# Altium integrated library manipulator-camera-module.IntLib: 6 symbols
Pins are listed as number, name and electrical type; pins without a type are passive.

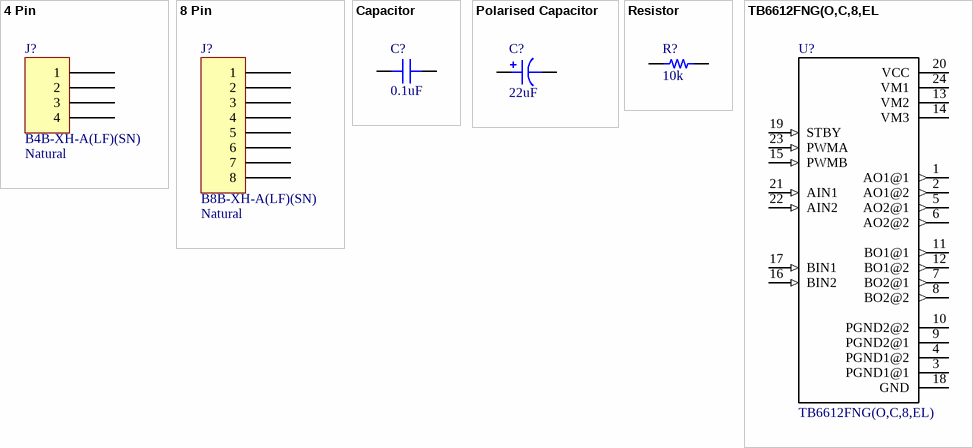
[diagram p0: symbols 4 Pin to TB6612FNG(O,C,8,EL]

## 4 Pin
designator J?, comment B4B-XH-A(LF)(SN)  Colour: Natural
CONN HEADER XH TOP 4POS 2.5MM; Manufacturer: JST Sales America Inc.; Pitch: 0.098" (2.50mm); Number Of Positions: 4; Part Number: B4B-XH-A(LF)(SN); PartId: 16451; Supplier 1: Digi-Key; Supplier Part Number 1: 455-2249-ND; ComponentLink1Description: Datasheet; ComponentLink1URL: http://www.jst-mfg.com/product/pdf/eng/eXH.pdf; ComponentLink2Description: Digi-Key Listing; ComponentLink2URL: http://www.digikey.com/product-detail/en/jst-sales-america-inc/B4B-XH-A(LF)(SN)/455-2249-ND/1651047; Price: 0,21; Type: Header, Shrouded; Contact Finish: Tin; Fastening Type: Detent Lock; Number Of Rows: 1; Series: XH
footprint JST XH B4B-XH-A
pins: 1, 2, 3, 4

## 8 Pin
designator J?, comment B8B-XH-A(LF)(SN)  Colour: Natural
CONN HEADER XH TOP 8POS 2.5MM; Manufacturer: JST Sales America Inc.; Pitch: 0.098" (2.50mm); Number Of Positions: 8; Part Number: B8B-XH-A(LF)(SN); PartId: 16455; Supplier 1: Digi-Key; Supplier Part Number 1: 455-2251-ND; ComponentLink1Description: Datasheet; ComponentLink1URL: http://www.jst-mfg.com/product/pdf/eng/eXH.pdf; ComponentLink2Description: Digi-Key Listing; ComponentLink2URL: http://www.digikey.com/product-detail/en/jst-sales-america-inc/B8B-XH-A(LF)(SN)/455-2251-ND/1651049; Price: 0,36; Type: Header, Shrouded; Contact Finish: Tin; Fastening Type: Detent Lock; Number Of Rows: 1; Series: XH
footprint JST XH B8B-XH-A
pins: 1, 2, 3, 4, 5, 6, 7, 8

## Capacitor
designator C?, comment 0.1uF
CAP CER 0.1UF 50V X7R 0805; Part Number: C2012X7R1H104K085AA; Manufacturer: TDK Corporation; TemperatureRange: -55C ~ 125C; Tolerance: 10%; Value: 0.1uF; PartId: 4390; Supplier 1: Digi-Key; Supplier Part Number 1: 445-7534-2-ND; ComponentLink1Description: Datasheet; ComponentLink1URL: https://product.tdk.com/info/en/catalog/datasheets/mlcc_commercial_general_en.pdf; ComponentLink2Description: Digi-Key listing; ComponentLink2URL: http://digikey.com/product-detail/en/C2012X7R1H104K085AA/445-7534-2-ND/2732969; TemperatureCoefficient: X7R; Voltage: 50V; Price: 0,0182; Type: -; Device Package: 0805 (2012 Metric)
footprint RES 0805/2012
pins: 1, 2

## Polarised Capacitor
designator C?, comment 22uF
CAP ALUM 22UF 20% 25V SMD; Part Number: EEE-1EA220AP; Manufacturer: Panasonic Electronic Components; TemperatureRange: -40C ~ 85C; Type: High Temperature Reflow; Ripple Current: 55mA; Lifetime @ Temp: 2000 Hrs @ 85C; Value: 22uF; PartId: 7220; Supplier 1: Digi-Key; Supplier Part Number 1: PCE4596TR-ND; ComponentLink1Description: Datasheet; ComponentLink1URL: http://media.digikey.com/pdf/Data%20Sheets/Panasonic%20Electronic%20Components/S_Series_Type_V.pdf; ComponentLink2Description: Digi-Key listing; ComponentLink2URL: http://digikey.com/product-detail/en/EEE-1EA220AP/PCE4596TR-ND/1717762; Tolerance: 20%; Voltage: 25V; Price: 0,1368; Device Package: Radial, Can - SMD; Impedance: -
footprint CAP ALUM 6.6MM
pins: 1, 2

## Resistor
designator R?, comment 10k
RES SMD 10K OHM 0.1% 1/8W 0805; Part Number: ERA-6AEB103V; Manufacturer: Panasonic Electronic Components; TemperatureRange: -55C ~ 155C; TemperatureCoefficient: 25ppm/C; PowerRating: 0.125W, 1/8W; Value: 10k; PartId: 2446; Supplier 1: Digi-Key; Supplier Part Number 1: P10KDATR-ND; ComponentLink1Description: Datasheet; ComponentLink1URL: http://industrial.panasonic.com/lecs/www-data/pdf/AOA0000/AOA0000CE26.pdf; ComponentLink2Description: Digi-Key listing; ComponentLink2URL: http://digikey.com/product-detail/en/ERA-6AEB103V/P10KDATR-ND/1465773; Tolerance: 0.1%; Price: 0,0653; Type: Thin Film; Device Package: 0805 (2012 Metric)
footprint RES 0805/2012
footprint RES 0805/2012 RF
pins: 1, 2

## TB6612FNG(O,C,8,EL
designator U?, comment TB6612FNG(O,C,8,EL)
Stepping Motor Driver Ic Unipolor Copper Wire 8; MF: Toshiba; MP: TB6612FNG(O,C,8,EL; Price: 2.11 USD; Package: SSOP-24 Toshiba; Availability: Good; Value: *; ComponentLink2URL: https://www.digikey.com/product-detail/en/toshiba-semiconductor-and-storage/TB6612FNGC8EL/TB6612FNGC8ELCT-ND/1730134
footprint SOP65P760X160-24N
pins: 1 AO1@1 (out), 2 AO1@2 (out), 3 PGND1@1, 4 PGND1@2, 5 AO2@1 (out), 6 AO2@2 (out), 7 BO2@1 (out), 8 BO2@2 (out), 9 PGND2@1, 10 PGND2@2, 11 BO1@1 (out), 12 BO1@2 (out), 13 VM2 (power), 14 VM3 (power), 15 PWMB (in), 16 BIN2 (in), 17 BIN1 (in), 18 GND, 19 STBY (in), 20 VCC (power), 21 AIN1 (in), 22 AIN2 (in), 23 PWMA (in), 24 VM1 (power)